# Altium schematic symbol library SL21.SchLib: 1 symbol
Pins are listed as number, name and electrical type; pins without a type are passive.

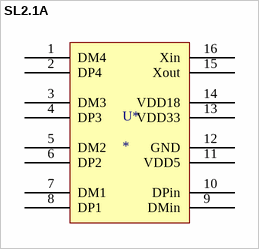
[diagram p0: symbol SL2.1A]

## SL2.1A
designator U*
footprint SOIC127P600X160-16N (SOIC, 16-Leads, Body 9.90x3.90mm, Pitch 1.27mm, IPC Medium Density)
pins: 1 DM4, 2 DP4, 3 DM3, 4 DP3, 5 DM2, 6 DP2, 7 DM1, 8 DP1, 9 DMin, 10 DPin, 11 VDD5, 12 GND, 13 VDD33, 14 VDD18, 15 Xout, 16 Xin